# EAGLE library part MICROBUILDER_SIM_LOCK (library ECE477_parts_library)
C707A SIMLOCK? 2.5 mm with wide solder tails Source: Data sheet <http://www.amphenol.info/downloads/C707_10M006_512_2.pdf>
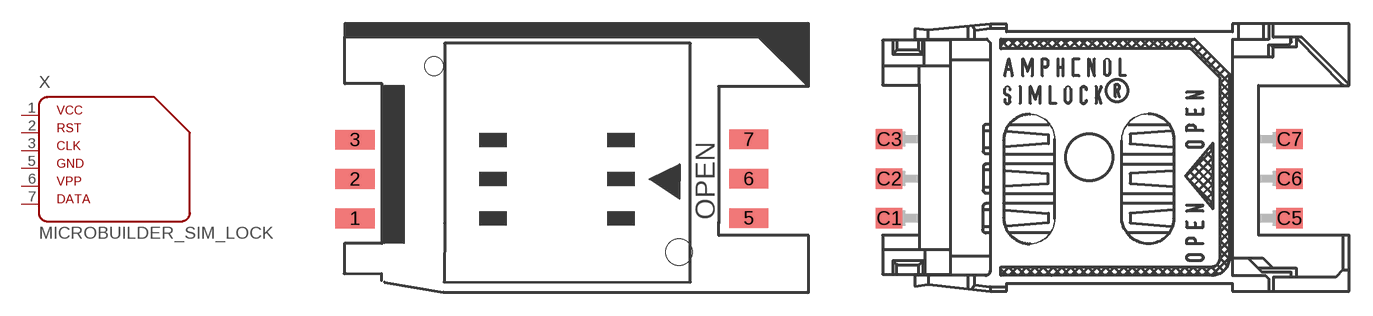
[diagram p5: symbol with the pads of MICROBUILDER_SIM_5002; footprints MICROBUILDER_SIM_5002, MICROBUILDER_C707_10M006_512_2]

Designator prefix X

## MICROBUILDER_SIM_LOCK  [MICROBUILDER_SIM_5002]
1  1  pas
2  2  pas
3  3  pas
5  4  pas
6  5  pas
7  6  pas

## MICROBUILDER_SIM_LOCKAMPHENOL (OC_FARNELL: unknown; OC_NEWARK: unknown)  [MICROBUILDER_C707_10M006_512_2]
C1  1  pas
C2  2  pas
C3  3  pas
C5  4  pas
C6  5  pas
C7  6  pas

## Footprint MICROBUILDER_SIM_5002 (pad centres in mm)
6 Contacts (3+3), low profile drawn by DeSIG desig@radikaldesig.com
smd 2.54 x 1.27: 1 0.904,0.574; 2 0.904,3.114; 3 0.904,5.654; 5 26.299,0.594; 6 26.299,3.134; 7 26.299,5.674
hole 1.7 at 21.8,-1.6
hole 1.2 at 6,10.4

## Footprint MICROBUILDER_C707_10M006_512_2 (pad centres in mm)
C707A SIMLOCK? 2.5 mm with wide solder tails Source: Data sheet <http://www.amphenol.info/downloads/C707_10M006_512_2.pdf>
smd 1.7 x 1.3: C1 -12.85,-3.915; C2 -12.85,-1.375; C3 -12.85,1.165; C5 12.85,-3.915; C6 12.85,-1.375; C7 12.85,1.165